# Altium schematic symbol library RNCF0603AKT10R0.SchLib: 2 symbols
Pins are listed as number, name and electrical type; pins without a type are passive.

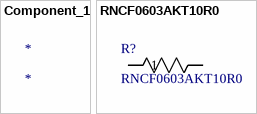
[diagram p0: symbols Component_1 to RNCF0603AKT10R0]

## Component_1
designator *

## RNCF0603AKT10R0
designator R?
10Ohm; Mfr_Name: Stackpole International; Copyright: Copyright (C) 2023 Ultra Librarian. All rights reserved.; Manufacturer_Part_Number: RNCF0603AKT10R0; RefDes: RefDes; Type: DEV
footprint RES_RNCF0603_STP
pins: 1, 2